# Altium footprint library BZD27C Family.PcbLib: 1 footprints
Each footprint in its own frame and in the unit in brackets; x right, y up, seen from the top. Pads: shape width x height; smd on the part's side, far side on the other; paste and mask are expansions set on the pad; w line width, h text height; cw(c..) or ccw(c..) is an arc to the next point about the centre after c.
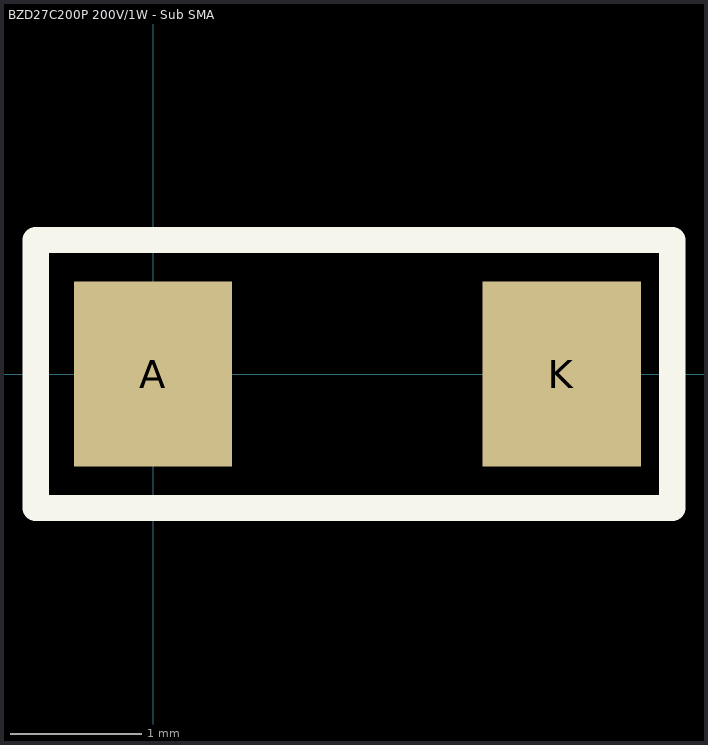
[diagram p0: the footprint, top view; thin cyan lines are the x and y axes]

## BZD27C200P 200V/1W - Sub SMA [mm] "Zener Diode 200V 1W ±5% Surface Mount Sub SMA"
pads (2):
  rect 1.2x1.4 smd: A(0,0) K(3.1,0)
Top Overlay:
  lines w0.2: -0.889,-1.016 -0.889,1.016 3.937,1.016 3.937,-1.016 -0.889,-1.016
3D body "Sub-SMA.STEP": height 1.36, standoff 0.01, extent -0.326,-0.9 3.374,0.9